# EAGLE library part CI12CT (library piher)
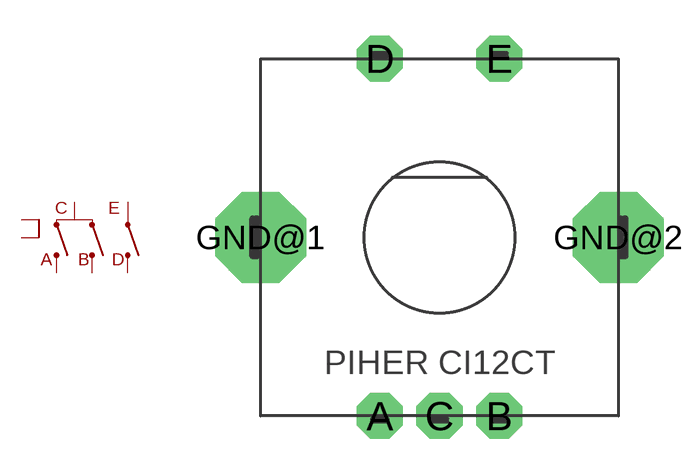
[diagram p4: symbol with the pads of CI12CT; footprint CI12CT]

Designator prefix ENC

## CI12CT  [CI12CT]
A  A
B  B
C  C
D  D
E  E
GND@1  GND
GND@2  GND

## Footprint CI12CT (pad centres in mm)
drill 1 pad 1.93 octagon: A -2.5,-7.5; B 2.5,-7.5; C 0,-7.5; D -2.5,7.5; E 2.5,7.5
drill 2 pad 3.81 octagon: GND@1 -7.5,0; GND@2 7.5,0